# Altium integrated library TI.IntLib: 51 symbols
Pins are listed as number, name and electrical type; pins without a type are passive.

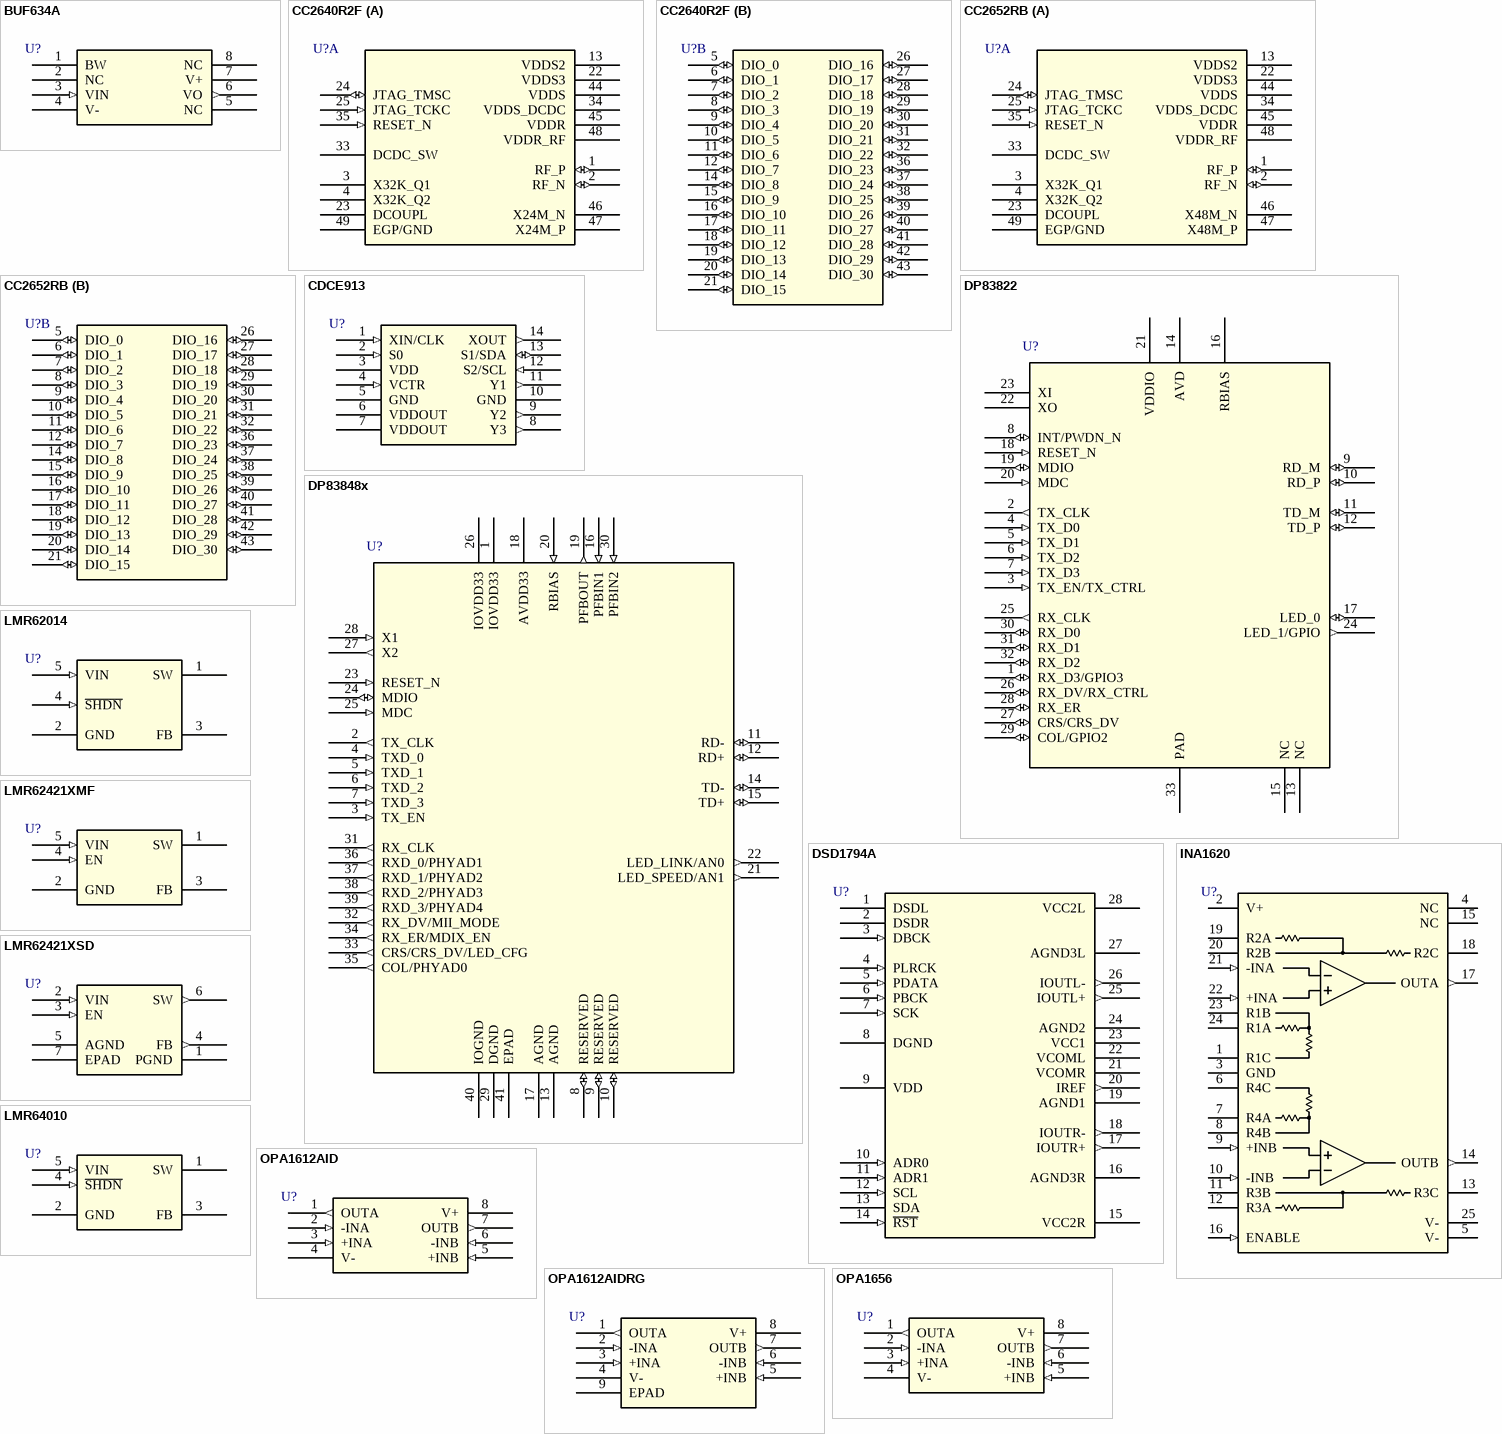
[diagram p0: symbols BUF634A to OPA1656]

## BUF634A
designator U?
BUF634A 36-V, 210-MHz, 250-mA Output, High-Speed Buffer; Manufacturer: Texas Instruments; Manufacturer_Part_Number: BUF634AIDR; Built_By: EMA_UL_Team; Copyright: Copyright (C) 2018 Accelerated Designs. All rights reserved; RefDes: RefDes; Type: DEV; Value: Value
footprint D8
pins: 1 BW, 2 NC, 3 VIN (in), 4 V- (power), 5 NC, 6 VO (out), 7 V+ (power), 8 NC

## CC2640R2F
designator U?
SimpleLink™ Bluetooth® 5.1 Low Energy Wireless MCU; Manufacturer: Texas Instruments; Manufacturer_Part_Number: CC2640R2FRGZR; Built_By: Texas_Instrument_Team; Copyright: Copyright (C) 2018 Accelerated Designs. All rights reserved; RefDes: RefDes; Type: DEV; Value: Value
footprint RGZ48
part A pins: 1 RF_P (io), 2 RF_N (io), 3 X32K_Q1, 4 X32K_Q2, 13 VDDS2 (power), 22 VDDS3 (power), 23 DCOUPL, 24 JTAG_TMSC (io), 25 JTAG_TCKC (in), 33 DCDC_SW (power), 34 VDDS_DCDC (power), 35 RESET_N (in), 44 VDDS (power), 45 VDDR (power), 46 X24M_N, 47 X24M_P, 48 VDDR_RF (power), 49 EGP/GND
part B pins: 5 DIO_0 (io), 6 DIO_1 (io), 7 DIO_2 (io), 8 DIO_3 (io), 9 DIO_4 (io), 10 DIO_5 (io), 11 DIO_6 (io), 12 DIO_7 (io), 14 DIO_8 (io), 15 DIO_9 (io), 16 DIO_10 (io), 17 DIO_11 (io), 18 DIO_12 (io), 19 DIO_13 (io), 20 DIO_14 (io), 21 DIO_15 (io), 26 DIO_16 (io), 27 DIO_17 (io), 28 DIO_18 (io), 29 DIO_19 (io), 30 DIO_20 (io), 31 DIO_21 (io), 32 DIO_22 (io), 36 DIO_23 (io), 37 DIO_24 (io), 38 DIO_25 (io), 39 DIO_26 (io), 40 DIO_27 (io), 41 DIO_28 (io), 42 DIO_29 (io), 43 DIO_30 (io)

## CC2652RB
designator U?
CC2652RB SimpleLink™ Crystal-less BAW Multiprotocol 2.4 GHz Wireless MCU; Manufacturer: Texas Instruments; Manufacturer_Part_Number: CC2652RB1FRGZR; Built_By: EMA_UL_Team; Copyright: Copyright (C) 2018 Accelerated Designs. All rights reserved; RefDes: RefDes; Type: DEV; Value: Value
footprint RGZ48
part A pins: 1 RF_P (io), 2 RF_N (io), 3 X32K_Q1, 4 X32K_Q2, 13 VDDS2 (power), 22 VDDS3 (power), 23 DCOUPL, 24 JTAG_TMSC (io), 25 JTAG_TCKC (in), 33 DCDC_SW (power), 34 VDDS_DCDC (power), 35 RESET_N (in), 44 VDDS (power), 45 VDDR (power), 46 X48M_N, 47 X48M_P, 48 VDDR_RF (power), 49 EGP/GND
part B pins: 5 DIO_0 (io), 6 DIO_1 (io), 7 DIO_2 (io), 8 DIO_3 (io), 9 DIO_4 (io), 10 DIO_5 (io), 11 DIO_6 (io), 12 DIO_7 (io), 14 DIO_8 (io), 15 DIO_9 (io), 16 DIO_10 (io), 17 DIO_11 (io), 18 DIO_12 (io), 19 DIO_13 (io), 20 DIO_14 (io), 21 DIO_15 (io), 26 DIO_16 (io), 27 DIO_17 (io), 28 DIO_18 (io), 29 DIO_19 (io), 30 DIO_20 (io), 31 DIO_21 (io), 32 DIO_22 (io), 36 DIO_23 (io), 37 DIO_24 (io), 38 DIO_25 (io), 39 DIO_26 (io), 40 DIO_27 (io), 41 DIO_28 (io), 42 DIO_29 (io), 43 DIO_30 (io)

## CDCE913
designator U?
CDCE(L)913: Flexible Low Power LVCMOS Clock Generator With SSC Support for EMI Reduction; Manufacturer: Texas Instruments; Manufacturer_Part_Number: CDCE913PWR; Built_By: EMA_UL_Team; Copyright: Copyright (C) 2018 Accelerated Designs. All rights reserved; RefDes: RefDes; Type: DEV; Value: Value
footprint PW14
pins: 1 XIN/CLK (in), 2 S0 (in), 3 VDD (power), 4 VCTR (in), 5 GND (power), 6 VDDOUT (power), 7 VDDOUT (power), 8 Y3 (out), 9 Y2 (out), 10 GND (power), 11 Y1 (out), 12 S2/SCL (in), 13 S1/SDA (io), 14 XOUT (out)

## DP83822
designator U?
DP83822 Robust, low power 10/100 Mbps ethernet physical layer transceiver; Manufacturer: Texas Instruments; Manufacturer_Part_Number: DP83822IRHBR; Built_By: EMA_Jessica; Copyright: Copyright (C) 2018 Accelerated Designs. All rights reserved; RefDes: RefDes; Type: DEV; Value: Value
footprint RHB32
pins: 1 RX_D3/GPIO3 (io), 2 TX_CLK (out), 3 TX_EN/TX_CTRL (in), 4 TX_D0 (in), 5 TX_D1 (in), 6 TX_D2 (in), 7 TX_D3 (in), 8 INT/PWDN_N (io), 9 RD_M (io), 10 RD_P (io), 11 TD_M (io), 12 TD_P (io), 13 NC, 14 AVD (power), 15 NC, 16 RBIAS, 17 LED_0 (io), 18 RESET_N (in), 19 MDIO (io), 20 MDC (in), 21 VDDIO (power), 22 XO, 23 XI, 24 LED_1/GPIO (out), 25 RX_CLK (out), 26 RX_DV/RX_CTRL (io), 27 CRS/CRS_DV (io), 28 RX_ER (io), 29 COL/GPIO2 (io), 30 RX_D0 (io), 31 RX_D1 (io), 32 RX_D2 (io), 33 PAD (power)

## DP83848x
designator U?
DP83848x PHYTER Mini / LS Single Port 10/100 MB/s Ethernet Transceiver; Manufacturer: Texas Instruments; Manufacturer_Part_Number: DP83848KSQ/NOPB; Built_By: EMA_UL_Team; Copyright: Copyright (C) 2018 Accelerated Designs. All rights reserved; RefDes: RefDes; Type: DEV; Value: Value
footprint RTA40
pins: 1 IOVDD33 (power), 2 TX_CLK (out), 3 TX_EN (in), 4 TXD_0 (in), 5 TXD_1 (in), 6 TXD_2 (in), 7 TXD_3 (in), 8 RESERVED (io), 9 RESERVED (io), 10 RESERVED (io), 11 RD- (io), 12 RD+ (io), 13 AGND (power), 14 TD- (io), 15 TD+ (io), 16 PFBIN1 (in), 17 AGND (power), 18 AVDD33 (power), 19 PFBOUT (out), 20 RBIAS (in), 21 LED_SPEED/AN1 (out), 22 LED_LINK/AN0 (out), 23 RESET_N (in), 24 MDIO (io), 25 MDC (in), 26 IOVDD33 (power), 27 X2 (out), 28 X1 (in), 29 DGND (power), 30 PFBIN2 (in), 31 RX_CLK (out), 32 RX_DV/MII_MODE (out), 33 CRS/CRS_DV/LED_CFG (out), 34 RX_ER/MDIX_EN (out), 35 COL/PHYAD0 (out), 36 RXD_0/PHYAD1 (out), 37 RXD_1/PHYAD2 (out), 38 RXD_2/PHYAD3 (out), 39 RXD_3/PHYAD4 (out), 40 IOGND (power), 41 EPAD

## DSD1794A
designator U?
24-Bit, 192-kHz Sampling, Advanced Segment, Audio Stereo Digital-to-analog Converter; Manufacturer: Texas Instruments; Manufacturer_Part_Number: DSD1794ADBR; Built_By: EMA_UL_Team; Copyright: Copyright (C) 2018 Accelerated Designs. All rights reserved; RefDes: RefDes; Type: DEV; Value: Value
footprint DB28
pins: 1 DSDL, 2 DSDR, 3 DBCK (in), 4 PLRCK (in), 5 PDATA (in), 6 PBCK (in), 7 SCK (in), 8 DGND (power), 9 VDD (power), 10 ADR0 (in), 11 ADR1 (in), 12 SCL (in), 13 SDA, 14 ~{RST} (in), 15 VCC2R (power), 16 AGND3R (power), 17 IOUTR+ (out), 18 IOUTR- (out), 19 AGND1 (power), 20 IREF (out), 21 VCOMR (power), 22 VCOML (power), 23 VCC1 (power), 24 AGND2 (power), 25 IOUTL+ (out), 26 IOUTL- (out), 27 AGND3L (power), 28 VCC2L (power)

## INA1620
designator U?
INA1620 High-Fidelity Audio Operational Amplifier With Integrated Thin-Film Resistors and EMI Filters; Manufacturer: Texas Instruments; Manufacturer_Part_Number: INA1620RTWR; Built_By: Texas_Instrument_Team; Copyright: Copyright (C) 2018 Accelerated Designs. All rights reserved; RefDes: RefDes; Type: DEV; Value: Value
footprint RTW24
pins: 1 R1C, 2 V+ (power), 3 GND (power), 4 NC, 5 V- (power), 6 R4C, 7 R4A, 8 R4B, 9 +INB (in), 10 -INB (in), 11 R3B, 12 R3A, 13 R3C, 14 OUTB (out), 15 NC, 16 ENABLE (in), 17 OUTA (out), 18 R2C, 19 R2A, 20 R2B, 21 -INA (in), 22 +INA (in), 23 R1B, 24 R1A, 25 V- (power)

## LMR62014
designator U?
LMR62014 SIMPLE SWITCHER® 20Vout, 1.4A Step-Up Voltage Regulator; Manufacturer: Texas Instruments; Manufacturer_Part_Number: LMR62014XMFX/NOPB; Built_By: EMA_UL_Team; Copyright: Copyright (C) 2018 Accelerated Designs. All rights reserved; RefDes: RefDes; Type: DEV; Value: Value
footprint DBV5
pins: 1 SW, 2 GND (power), 3 FB, 4 ~{SHDN} (in), 5 VIN (in)

## LMR62421XMF
designator U?
LMR62421 SIMPLE SWITCHER® 24Vout, 2.1A Step-Up Voltage Regulator in SOT-23; Manufacturer: Texas Instruments; Manufacturer_Part_Number: LMR62421XMF/NOPB; Built_By: EMA_UL_Team; Copyright: Copyright (C) 2018 Accelerated Designs. All rights reserved; RefDes: RefDes; Type: DEV; Value: Value
footprint DBV5
pins: 1 SW, 2 GND (power), 3 FB, 4 EN (in), 5 VIN (in)

## LMR62421XSD
designator U?
LMR62421 SIMPLE SWITCHER® 24Vout, 2.1A Step-Up Voltage Regulator in SOT-23; Manufacturer: Texas Instruments; Manufacturer_Part_Number: LMR62421XSD/NOPB; Built_By: EMA_UL_Team; Copyright: Copyright (C) 2018 Accelerated Designs. All rights reserved; RefDes: RefDes; Type: DEV; Value: Value
footprint NGG6
pins: 1 PGND (power), 2 VIN (in), 3 EN (in), 4 FB (out), 5 AGND (power), 6 SW (out), 7 EPAD

## LMR64010
designator U?
LMR64010 SIMPLE SWITCHER® 40Vout, 1A Step-Up Voltage Regulator in SOT-23; Manufacturer: Texas Instruments; Manufacturer_Part_Number: LMR64010XMFX/NOPB; Built_By: EMA_UL_Team; Copyright: Copyright (C) 2018 Accelerated Designs. All rights reserved; RefDes: RefDes; Type: DEV; Value: Value
footprint DBV5
pins: 1 SW, 2 GND (power), 3 FB, 4 ~{SHDN} (in), 5 VIN (in)

## OPA1612AID
designator U?
OPA161x SoundPlus™ High-Performance, Bipolar-Input Audio Operational Amplifiers; Manufacturer: Texas Instruments; Manufacturer_Part_Number: OPA1612AIDR; Built_By: EMA_UL_Team; Copyright: Copyright (C) 2018 Accelerated Designs. All rights reserved; RefDes: RefDes; Type: DEV; Value: Value
footprint D8
pins: 1 OUTA (out), 2 -INA (in), 3 +INA (in), 4 V- (power), 5 +INB (in), 6 -INB (in), 7 OUTB (out), 8 V+ (power)

## OPA1612AIDRG
designator U?
OPA161x SoundPlus™ High-Performance, Bipolar-Input Audio Operational Amplifiers; Manufacturer: Texas Instruments; Manufacturer_Part_Number: OPA1612AIDRGR; Built_By: EMA_UL_Team; Copyright: Copyright (C) 2018 Accelerated Designs. All rights reserved; RefDes: RefDes; Type: DEV; Value: Value
footprint DRG8
pins: 1 OUTA (out), 2 -INA (in), 3 +INA (in), 4 V- (power), 5 +INB (in), 6 -INB (in), 7 OUTB (out), 8 V+ (power), 9 EPAD

## OPA1656
designator U?
OPA1656 Ultra-Low-Noise, Low-Distortion, FET-Input, Burr-Brown™ Audio Operational Amplifier; Manufacturer: Texas Instruments; Manufacturer_Part_Number: OPA1656IDR; Built_By: EMA_UL_Team; Copyright: Copyright (C) 2018 Accelerated Designs. All rights reserved; RefDes: RefDes; Type: DEV; Value: Value
footprint D8
pins: 1 OUTA (out), 2 -INA (in), 3 +INA (in), 4 V- (power), 5 +INB (in), 6 -INB (in), 7 OUTB (out), 8 V+ (power)

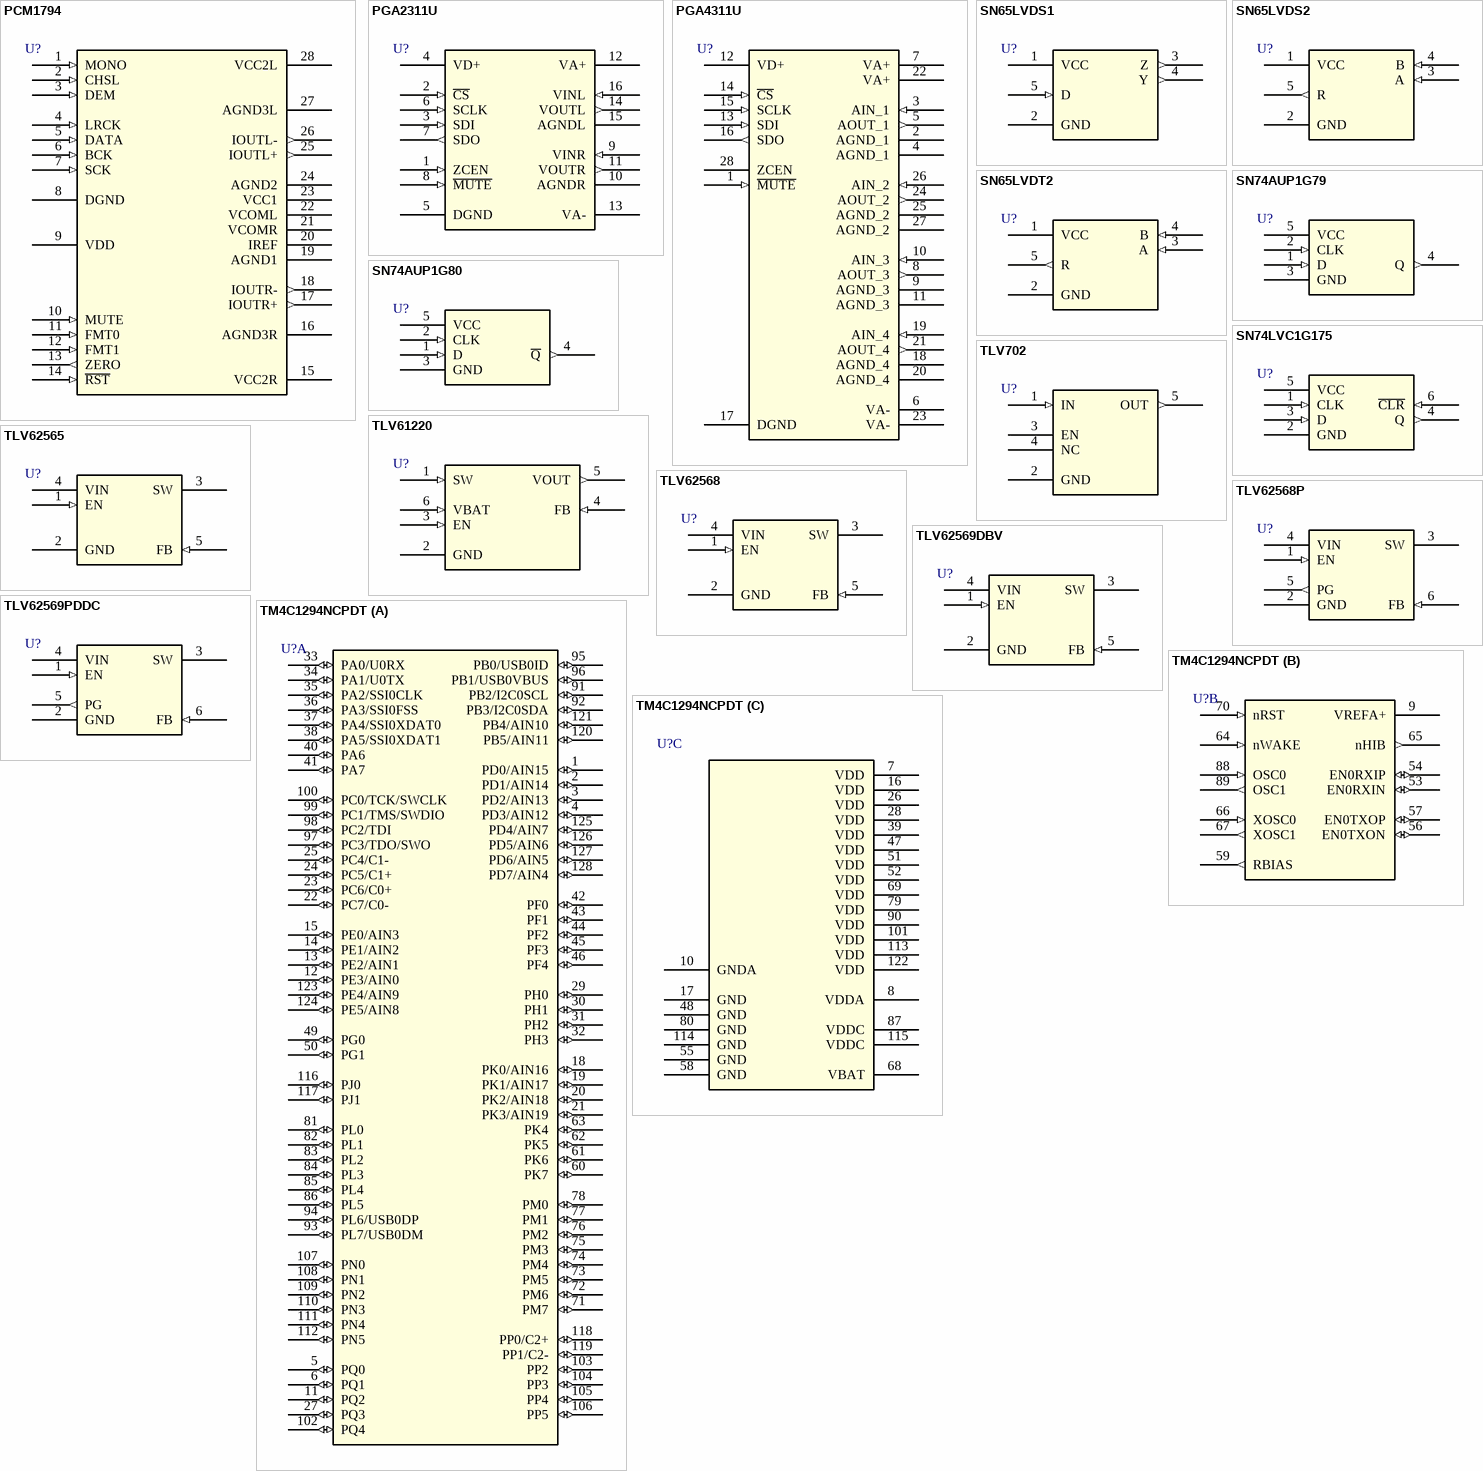
[diagram p1: symbols PCM1794 to TM4C1294NCPDT]

## PCM1794
designator U?
24-Bit, 192-kHz Sampling, Advanced Segment, Audio Stereo Digital-to-analog Converter; Manufacturer: Texas Instruments; Manufacturer_Part_Number: PCM1794ADBR; Built_By: EMA_UL_Team; Copyright: Copyright (C) 2018 Accelerated Designs. All rights reserved; RefDes: RefDes; Type: DEV; Value: Value
footprint DB28
pins: 1 MONO (in), 2 CHSL (in), 3 DEM (in), 4 LRCK (in), 5 DATA (in), 6 BCK (in), 7 SCK (in), 8 DGND (power), 9 VDD (power), 10 MUTE (in), 11 FMT0 (in), 12 FMT1 (in), 13 ZERO (out), 14 ~{RST} (in), 15 VCC2R (power), 16 AGND3R (power), 17 IOUTR+ (out), 18 IOUTR- (out), 19 AGND1 (power), 20 IREF (power), 21 VCOMR (power), 22 VCOML (power), 23 VCC1 (power), 24 AGND2 (power), 25 IOUTL+ (out), 26 IOUTL- (out), 27 AGND3L (power), 28 VCC2L (power)

## PGA2311U
designator U?
Stereo Audio Volume Control; Manufacturer: Texas Instruments; Manufacturer_Part_Number: PGA2311UA; Built_By: EMA_UL_Team; Copyright: Copyright (C) 2018 Accelerated Designs. All rights reserved; RefDes: RefDes; Type: DEV; Value: Value
footprint DW16
pins: 1 ZCEN (in), 2 ~{CS} (in), 3 SDI (in), 4 VD+ (power), 5 DGND (power), 6 SCLK (in), 7 SDO (out), 8 ~{MUTE} (in), 9 VINR (in), 10 AGNDR (power), 11 VOUTR (out), 12 VA+ (power), 13 VA- (power), 14 VOUTL (out), 15 AGNDL (power), 16 VINL (in)

## PGA4311U
designator U?
4-Channel Audio Volume Control; Manufacturer: Texas Instruments; Manufacturer_Part_Number: PGA4311U/1K; Built_By: EMA_UL_Team; Copyright: Copyright (C) 2018 Accelerated Designs. All rights reserved; RefDes: RefDes; Type: DEV; Value: Value
footprint DW28
pins: 1 ~{MUTE} (in), 2 AGND_1 (power), 3 AIN_1 (in), 4 AGND_1 (power), 5 AOUT_1 (out), 6 VA- (power), 7 VA+ (power), 8 AOUT_3 (out), 9 AGND_3 (power), 10 AIN_3 (in), 11 AGND_3 (power), 12 VD+ (power), 13 SDI (in), 14 ~{CS} (in), 15 SCLK (in), 16 SDO (out), 17 DGND (power), 18 AGND_4 (power), 19 AIN_4 (in), 20 AGND_4 (power), 21 AOUT_4 (out), 22 VA+ (power), 23 VA- (power), 24 AOUT_2 (out), 25 AGND_2 (power), 26 AIN_2 (in), 27 AGND_2 (power), 28 ZCEN

## SN65LVDS1
designator U?
SN65LVDS1 High-Speed Differential Line Driver; Manufacturer: Texas Instruments; Manufacturer_Part_Number: SN65LVDS1DBVR; Built_By: EMA_UL_Team; Copyright: Copyright (C) 2018 Accelerated Designs. All rights reserved; RefDes: RefDes; Type: DEV; Value: Value
footprint DBV5
pins: 1 VCC (power), 2 GND (power), 3 Z (out), 4 Y (out), 5 D (in)

## SN65LVDS2
designator U?
SN65LVDS2 High-Speed Differential Line Receiver; Manufacturer: Texas Instruments; Manufacturer_Part_Number: SN65LVDS2DBVR; Built_By: EMA_UL_Team; Copyright: Copyright (C) 2018 Accelerated Designs. All rights reserved; RefDes: RefDes; Type: DEV; Value: Value
footprint DBV5
pins: 1 VCC (power), 2 GND (power), 3 A (in), 4 B (in), 5 R (out)

## SN65LVDT2
designator U?
SN65LVDT2 High-Speed Differential Line Receiver; Manufacturer: Texas Instruments; Manufacturer_Part_Number: SN65LVDT2DBVR; Built_By: EMA_UL_Team; Copyright: Copyright (C) 2018 Accelerated Designs. All rights reserved; RefDes: RefDes; Type: DEV; Value: Value
footprint DBV5
pins: 1 VCC (power), 2 GND (power), 3 A (in), 4 B (in), 5 R (out)

## SN74AUP1G79
designator U?
SN74AUP1G79 Low-Power Single Positive-Edge-Triggered D-Type Flip-Flop; Manufacturer: Texas Instruments; Manufacturer_Part_Number: SN74AUP1G79DCKR; Built_By: EMA_UL_Team; Copyright: Copyright (C) 2018 Accelerated Designs. All rights reserved; RefDes: RefDes; Type: DEV; Value: Value
footprint DCK5
pins: 1 D (in), 2 CLK (in), 3 GND (power), 4 Q (out), 5 VCC (power)

## SN74AUP1G80
designator U?
SN74AUP1G80 Low-Power Single Positive-Edge-Triggered D-Type Flip-Flop; Manufacturer: Texas Instruments; Manufacturer_Part_Number: SN74AUP1G80DCKR; Built_By: EMA_UL_Team; Copyright: Copyright (C) 2018 Accelerated Designs. All rights reserved; RefDes: RefDes; Type: DEV; Value: Value
footprint DCK5
pins: 1 D (in), 2 CLK (in), 3 GND (power), 4 ~{Q} (out), 5 VCC (power)

## SN74LVC1G175
designator U?
SN74LVC1G175 Single D-Type Flip-Flop With Asynchronous Clear; Manufacturer: Texas Instruments; Manufacturer_Part_Number: SN74LVC1G175DBVR; Built_By: EMA_UL_Team; Copyright: Copyright (C) 2018 Accelerated Designs. All rights reserved; RefDes: RefDes; Type: DEV; Value: Value
footprint DBV6
pins: 1 CLK (in), 2 GND, 3 D (in), 4 Q (out), 5 VCC (power), 6 ~{CLR} (in)

## TLV702
designator U?
TLV702 300-mA, Low-IQ, Low-Dropout Regulator; Manufacturer: Texas Instruments; Manufacturer_Part_Number: TLV70212DBVR; Built_By: Gordon Mak; Copyright: Copyright (C) 2020 MWLabs. All rights reserved; RefDes: RefDes; Type: DEV; Value: Value
footprint DBV5
pins: 1 IN (in), 2 GND (power), 3 EN, 4 NC, 5 OUT (out)

## TLV61220
designator U?
TLV61220 Low-Input Voltage Step-Up Converter; Manufacturer: Texas Instruments; Manufacturer_Part_Number: TLV61220DBVR; Built_By: EMA_UL_Team; Copyright: Copyright (C) 2018 Accelerated Designs. All rights reserved; RefDes: RefDes; Type: DEV; Value: Value
footprint DBV6
pins: 1 SW (in), 2 GND (power), 3 EN (in), 4 FB (in), 5 VOUT (out), 6 VBAT (in)

## TLV62565
designator U?
TLV6256x 1.5-A High Efficiency Step-Down Converters; Manufacturer: Texas Instruments; Manufacturer_Part_Number: TLV62565DBVR; Built_By: Gordon Mak; Copyright: Copyright (C) 2020 MWLabs. All rights reserved; RefDes: RefDes; Type: DEV; Value: Value
footprint DBV5
pins: 1 EN (in), 2 GND (power), 3 SW, 4 VIN (power), 5 FB (in)

## TLV62568
designator U?
TLV62568 1-A High Efficiency Synchronous Buck Converter; Manufacturer: Texas Instruments; Manufacturer_Part_Number: TLV62568DBVR; Built_By: Gordon Mak; Copyright: Copyright (C) 2020 MWLabs. All rights reserved; RefDes: RefDes; Type: DEV; Value: Value
footprint DBV5
pins: 1 EN (in), 2 GND (power), 3 SW (power), 4 VIN (power), 5 FB (in)

## TLV62568P
designator U?
TLV62568 1-A High Efficiency Synchronous Buck Converter; Manufacturer: Texas Instruments; Manufacturer_Part_Number: TLV62568PDDCR; Built_By: Gordon Mak; Copyright: Copyright (C) 2020 MWLabs. All rights reserved; RefDes: RefDes; Type: DEV; Value: Value
footprint DDC6
pins: 1 EN (in), 2 GND (power), 3 SW (power), 4 VIN (power), 5 PG (out), 6 FB (in)

## TLV62569DBV
designator U?
TLV62569 2-A High Efficiency Synchronous Buck Converter; Manufacturer: Texas Instruments; Manufacturer_Part_Number: TLV62569DBVR; Built_By: Gordon Mak; Copyright: Copyright (C) 2020 MWLabs. All rights reserved; RefDes: RefDes; Type: DEV; Value: Value
footprint DBV5
pins: 1 EN (in), 2 GND (power), 3 SW (power), 4 VIN (power), 5 FB (in)

## TLV62569PDDC
designator U?
TLV62569 2-A High Efficiency Synchronous Buck Converter; Manufacturer: Texas Instruments; Manufacturer_Part_Number: TLV62569PDDCR; Built_By: Gordon Mak; Copyright: Copyright (C) 2020 MWLabs. All rights reserved; RefDes: RefDes; Type: DEV; Value: Value
footprint DDC6
pins: 1 EN (in), 2 GND (power), 3 SW (power), 4 VIN (power), 5 PG (out), 6 FB (in)

## TM4C1294NCPDT
designator U?
Tiva™ TM4C1294NCPDT Microcontroller; Manufacturer: Texas Instruments; Manufacturer_Part_Number: TM4C1294NCPDTT3R; Built_By: EMA_UL_Team; Copyright: Copyright (C) 2018 Accelerated Designs. All rights reserved; RefDes: RefDes; Type: DEV; Value: Value
footprint PDT128
part A pins: 1 PD0/AIN15 (io), 2 PD1/AIN14 (io), 3 PD2/AIN13 (io), 4 PD3/AIN12 (io), 5 PQ0 (io), 6 PQ1 (io), 11 PQ2 (io), 12 PE3/AIN0 (io), 13 PE2/AIN1 (io), 14 PE1/AIN2 (io), 15 PE0/AIN3 (io), 18 PK0/AIN16 (io), 19 PK1/AIN17 (io), 20 PK2/AIN18 (io), 21 PK3/AIN19 (io), 22 PC7/C0- (io), 23 PC6/C0+ (io), 24 PC5/C1+ (io), 25 PC4/C1- (io), 27 PQ3 (io), 29 PH0 (io), 30 PH1 (io), 31 PH2 (io), 32 PH3 (io), 33 PA0/U0RX (io), 34 PA1/U0TX (io), 35 PA2/SSI0CLK (io), 36 PA3/SSI0FSS (io), 37 PA4/SSI0XDAT0 (io), 38 PA5/SSI0XDAT1 (io), 40 PA6 (io), 41 PA7 (io), 42 PF0 (io), 43 PF1 (io), 44 PF2 (io), 45 PF3 (io), 46 PF4 (io), 49 PG0 (io), 50 PG1 (io), 60 PK7 (io), 61 PK6 (io), 62 PK5 (io), 63 PK4 (io), 71 PM7 (io), 72 PM6 (io), 73 PM5 (io), 74 PM4 (io), 75 PM3 (io), 76 PM2 (io), 77 PM1 (io), 78 PM0 (io), 81 PL0 (io), 82 PL1 (io), 83 PL2 (io), 84 PL3 (io), 85 PL4 (io), 86 PL5 (io), 91 PB2/I2C0SCL (io), 92 PB3/I2C0SDA (io), 93 PL7/USB0DM (io), 94 PL6/USB0DP (io), 95 PB0/USB0ID (io), 96 PB1/USB0VBUS (io), 97 PC3/TDO/SWO (io), 98 PC2/TDI (io), 99 PC1/TMS/SWDIO (io), 100 PC0/TCK/SWCLK (io), 102 PQ4 (io), 103 PP2 (io), 104 PP3 (io), 105 PP4 (io), 106 PP5 (io), 107 PN0 (io), 108 PN1 (io), 109 PN2 (io), 110 PN3 (io), 111 PN4 (io), 112 PN5 (io), 116 PJ0 (io), 117 PJ1 (io), 118 PP0/C2+ (io), 119 PP1/C2- (io), 120 PB5/AIN11 (io), 121 PB4/AIN10 (io), 123 PE4/AIN9 (io), 124 PE5/AIN8 (io), 125 PD4/AIN7 (io), 126 PD5/AIN6 (io), 127 PD6/AIN5 (io), 128 PD7/AIN4 (io)
part B pins: 9 VREFA+ (power), 53 EN0RXIN (io), 54 EN0RXIP (io), 56 EN0TXON (io), 57 EN0TXOP (io), 59 RBIAS (out), 64 nWAKE (in), 65 nHIB (out), 66 XOSC0 (in), 67 XOSC1 (out), 70 nRST (in), 88 OSC0 (in), 89 OSC1 (out)
part C pins: 7 VDD (power), 8 VDDA (power), 10 GNDA (power), 16 VDD (power), 17 GND (power), 26 VDD (power), 28 VDD (power), 39 VDD (power), 47 VDD (power), 48 GND (power), 51 VDD (power), 52 VDD (power), 55 GND (power), 58 GND (power), 68 VBAT (power), 69 VDD (power), 79 VDD (power), 80 GND (power), 87 VDDC (power), 90 VDD (power), 101 VDD (power), 113 VDD (power), 114 GND (power), 115 VDDC (power), 122 VDD (power)

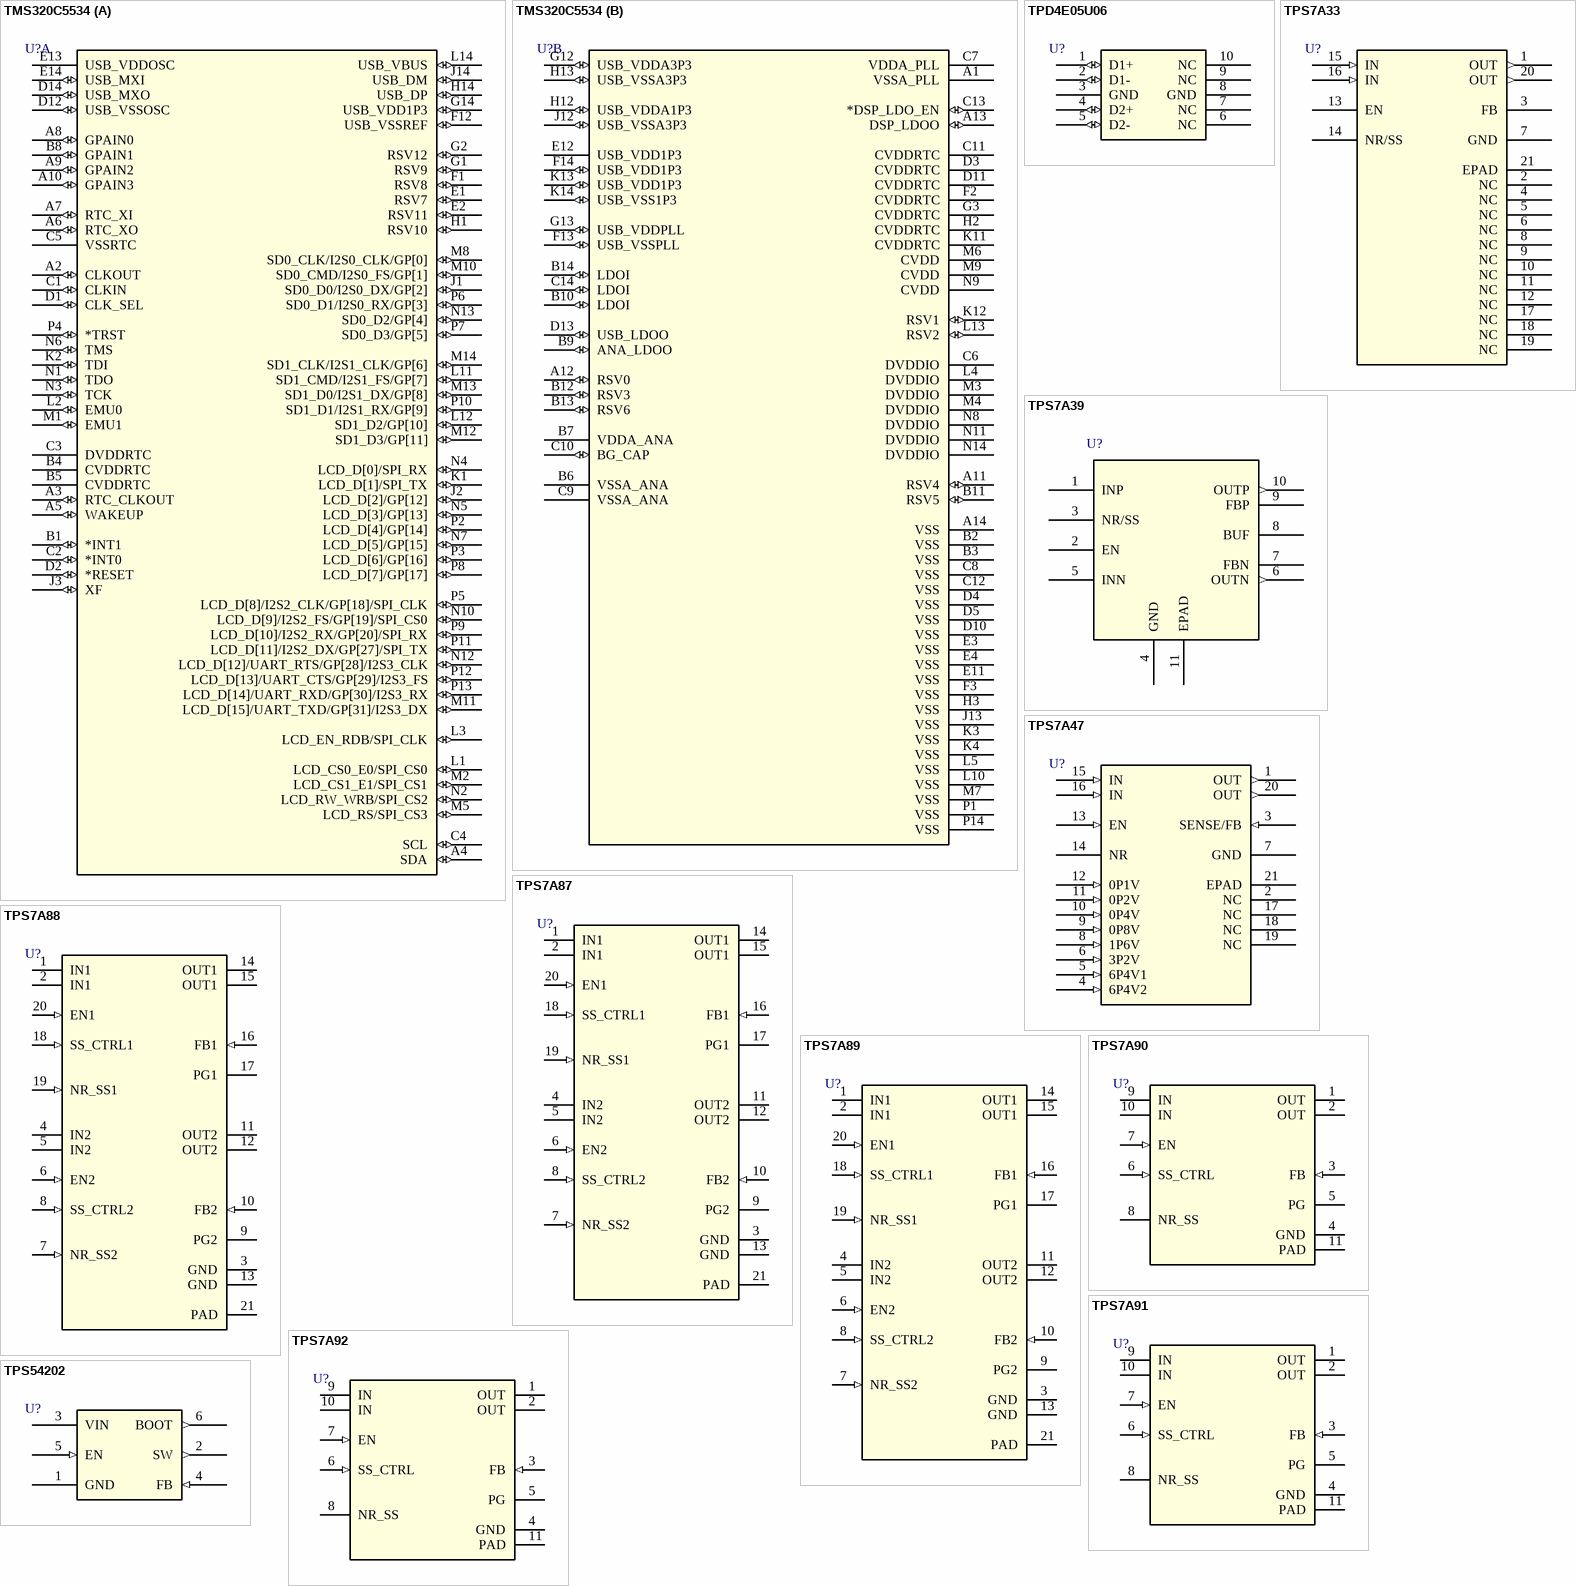
[diagram p2: symbols TMS320C5534 to TPS54202]

## TMS320C5534
designator U?
Fixed-Point Digital Signal Processor; Manufacturer: Texas Instruments; Manufacturer_Part_Number: TMS320C5534AZHH10; Built_By: EMA_UL_Team; Copyright: Copyright (C) 2018 Accelerated Designs. All rights reserved; RefDes: RefDes; Type: DEV; Value: Value
footprint ZHH144
part A pins: A2 CLKOUT (io), A3 RTC_CLKOUT (io), A4 SDA (io), A5 WAKEUP (io), A6 RTC_XO (io), A7 RTC_XI (io), A8 GPAIN0 (io), A9 GPAIN2 (io), A10 GPAIN3 (io), B1 *INT1 (io), B4 CVDDRTC (power), B5 CVDDRTC (power), B8 GPAIN1 (io), C1 CLKIN (io), C2 *INT0 (io), C3 DVDDRTC (power), C4 SCL (io), C5 VSSRTC (power), D1 CLK_SEL (io), D2 *RESET (io), D12 USB_VSSOSC (io), D14 USB_MXO (io), E1 RSV7 (io), E2 RSV11 (io), E13 USB_VDDOSC (power), E14 USB_MXI (io), F1 RSV8 (io), F12 USB_VSSREF (io), G1 RSV9 (io), G2 RSV12 (io), G14 USB_VDD1P3 (io), H1 RSV10 (io), H14 USB_DP (io), J1 SD0_D0/I2S0_DX/GP[2] (io), J2 LCD_D[2]/GP[12] (io), J3 XF (io), J14 USB_DM (io), K1 LCD_D[1]/SPI_TX (io), K2 TDI (io), L1 LCD_CS0_E0/SPI_CS0 (io), L2 EMU0 (io), L3 LCD_EN_RDB/SPI_CLK (io), L11 SD1_CMD/I2S1_FS/GP[7] (io), L12 SD1_D2/GP[10] (io), L14 USB_VBUS (io), M1 EMU1 (io), M2 LCD_CS1_E1/SPI_CS1 (io), M5 LCD_RS/SPI_CS3 (io), M8 SD0_CLK/I2S0_CLK/GP[0] (io), M10 SD0_CMD/I2S0_FS/GP[1] (io), M11 LCD_D[15]/UART_TXD/GP[31]/I2S3_DX (io), M12 SD1_D3/GP[11] (io), M13 SD1_D0/I2S1_DX/GP[8] (io), M14 SD1_CLK/I2S1_CLK/GP[6] (io), N1 TDO (io), N2 LCD_RW_WRB/SPI_CS2 (io), N3 TCK (io), N4 LCD_D[0]/SPI_RX (io), N5 LCD_D[3]/GP[13] (io), N6 TMS (io), N7 LCD_D[5]/GP[15] (io), N10 LCD_D[9]/I2S2_FS/GP[19]/SPI_CS0 (io), N12 LCD_D[12]/UART_RTS/GP[28]/I2S3_CLK (io), N13 SD0_D2/GP[4] (io), P2 LCD_D[4]/GP[14] (io), P3 LCD_D[6]/GP[16] (io), P4 *TRST (io), P5 LCD_D[8]/I2S2_CLK/GP[18]/SPI_CLK (io), P6 SD0_D1/I2S0_RX/GP[3] (io), P7 SD0_D3/GP[5] (io), P8 LCD_D[7]/GP[17] (io), P9 LCD_D[10]/I2S2_RX/GP[20]/SPI_RX (io), P10 SD1_D1/I2S1_RX/GP[9] (io), P11 LCD_D[11]/I2S2_DX/GP[27]/SPI_TX (io), P12 LCD_D[13]/UART_CTS/GP[29]/I2S3_FS (io), P13 LCD_D[14]/UART_RXD/GP[30]/I2S3_RX (io)
part B pins: A1 VSSA_PLL (power), A11 RSV4 (io), A12 RSV0 (io), A13 DSP_LDOO (io), A14 VSS (power), B2 VSS (power), B3 VSS (power), B6 VSSA_ANA (power), B7 VDDA_ANA (power), B9 ANA_LDOO (io), B10 LDOI (io), B11 RSV5 (io), B12 RSV3 (io), B13 RSV6 (io), B14 LDOI (io), C6 DVDDIO (power), C7 VDDA_PLL (power), C8 VSS (power), C9 VSSA_ANA (power), C10 BG_CAP (io), C11 CVDDRTC (power), C12 VSS (power), C13 *DSP_LDO_EN (io), C14 LDOI (io), D3 CVDDRTC (power), D4 VSS (power), D5 VSS (power), D10 VSS (power), D11 CVDDRTC (power), D13 USB_LDOO (io), E3 VSS (power), E4 VSS (power), E11 VSS (power), E12 USB_VDD1P3 (power), F2 CVDDRTC (power), F3 VSS (power), F13 USB_VSSPLL (io), F14 USB_VDD1P3 (io), G3 CVDDRTC (power), G12 USB_VDDA3P3 (io), G13 USB_VDDPLL (io), H2 CVDDRTC (power), H3 VSS (power), H12 USB_VDDA1P3 (io), H13 USB_VSSA3P3 (io), J12 USB_VSSA3P3 (io), J13 VSS (power), K3 VSS (power), K4 VSS (power), K11 CVDDRTC (power), K12 RSV1 (io), K13 USB_VDD1P3 (io), K14 USB_VSS1P3 (io), L4 DVDDIO (power), L5 VSS (power), L10 VSS (power), L13 RSV2 (io), M3 DVDDIO (power), M4 DVDDIO (power), M6 CVDD (power), M7 VSS (power), M9 CVDD (power), N8 DVDDIO (power), N9 CVDD (power), N11 DVDDIO (power), N14 DVDDIO (power), P1 VSS (power), P14 VSS (power)

## TPD4E05U06
designator U?
TPDxE05U06 4 Channel ESD Protection Device for Super-Speed (Up to 6 Gbps) Interface; Manufacturer: Texas Instruments; Manufacturer_Part_Number: TPD4E05U06DQAR; Built_By: EMA_UL_Team; Copyright: Copyright (C) 2018 Accelerated Designs. All rights reserved; RefDes: RefDes; Type: DEV; Value: Value
footprint DQA10
pins: 1 D1+ (io), 2 D1- (io), 3 GND (power), 4 D2+ (io), 5 D2- (io), 6 NC, 7 NC, 8 GND (power), 9 NC, 10 NC

## TPS7A33
designator U?
TPS7A33 –36-V, 1-A, Ultralow-Noise Negative Voltage Regulator; Manufacturer: Texas Instruments; Manufacturer_Part_Number: TPS7A3301RGWR; Built_By: EMA_UL_Team; Copyright: Copyright (C) 2018 Accelerated Designs. All rights reserved; RefDes: RefDes; Type: DEV; Value: Value
footprint RGW20
pins: 1 OUT (out), 2 NC, 3 FB, 4 NC, 5 NC, 6 NC, 7 GND (power), 8 NC, 9 NC, 10 NC, 11 NC, 12 NC, 13 EN, 14 NR/SS, 15 IN (in), 16 IN (in), 17 NC, 18 NC, 19 NC, 20 OUT (out), 21 EPAD

## TPS7A39
designator U?
TPS7A39 Dual, 150-mA, Wide VIN Positive and Negative LDO Voltage Regulator; Manufacturer: Texas Instruments; Manufacturer_Part_Number: TPS7A3901DSCR; Built_By: EMA_Molly; Copyright: Copyright (C) 2018 Accelerated Designs. All rights reserved; RefDes: RefDes; Type: DEV; Value: Value
footprint DSC10
pins: 1 INP, 2 EN, 3 NR/SS, 4 GND, 5 INN, 6 OUTN (out), 7 FBN, 8 BUF, 9 FBP, 10 OUTP (out), 11 EPAD

## TPS7A47
designator U?
TPS7A470x 36-V, 1-A, 4-µVRMS, RF LDO Voltage Regulator; Manufacturer: Texas Instruments; Manufacturer_Part_Number: TPS7A4701RGWR; Built_By: EMA_UL_Team; Copyright: Copyright (C) 2018 Accelerated Designs. All rights reserved; RefDes: RefDes; Type: DEV; Value: Value
footprint RGW20
pins: 1 OUT (out), 2 NC, 3 SENSE/FB (in), 4 6P4V2 (in), 5 6P4V1 (in), 6 3P2V (in), 7 GND (power), 8 1P6V (in), 9 0P8V (in), 10 0P4V (in), 11 0P2V (in), 12 0P1V (in), 13 EN (in), 14 NR, 15 IN (in), 16 IN (in), 17 NC, 18 NC, 19 NC, 20 OUT (out), 21 EPAD

## TPS7A87
designator U?
TPS7A87 Dual, 500-mA, Low-Noise (3.8 μVRMS), LDO Voltage Regulator; Manufacturer: Texas Instruments; Manufacturer_Part_Number: TPS7A8701RTJR; Built_By: Texas_Instrument_Team; Copyright: Copyright (C) 2018 Accelerated Designs. All rights reserved; RefDes: RefDes; Type: DEV; Value: Value
footprint RTJ20
pins: 1 IN1 (power), 2 IN1 (power), 3 GND (power), 4 IN2 (power), 5 IN2 (power), 6 EN2 (in), 7 NR_SS2 (in), 8 SS_CTRL2 (in), 9 PG2 (oc), 10 FB2 (in), 11 OUT2 (power), 12 OUT2 (power), 13 GND (power), 14 OUT1 (power), 15 OUT1 (power), 16 FB1 (in), 17 PG1 (oc), 18 SS_CTRL1 (in), 19 NR_SS1 (in), 20 EN1 (in), 21 PAD (power)

## TPS7A88
designator U?
TPS7A88 Dual, 1-A, Low-Noise (3.8-µVRMS), LDO Voltage Regulator; Manufacturer: Texas Instruments; Manufacturer_Part_Number: TPS7A8801RTJR; Built_By: Texas_Instrument_Team; Copyright: Copyright (C) 2018 Accelerated Designs. All rights reserved; RefDes: RefDes; Type: DEV; Value: Value
footprint RTJ20
pins: 1 IN1 (power), 2 IN1 (power), 3 GND (power), 4 IN2 (power), 5 IN2 (power), 6 EN2 (in), 7 NR_SS2 (in), 8 SS_CTRL2 (in), 9 PG2 (oc), 10 FB2 (in), 11 OUT2 (power), 12 OUT2 (power), 13 GND (power), 14 OUT1 (power), 15 OUT1 (power), 16 FB1 (in), 17 PG1 (oc), 18 SS_CTRL1 (in), 19 NR_SS1 (in), 20 EN1 (in), 21 PAD (power)

## TPS7A89
designator U?
TPS7A89 Small, Dual, 2-A, Low-Noise (3.8 μVRMS), LDO Voltage Regulator; Manufacturer: Texas Instruments; Manufacturer_Part_Number: TPS7A8901RTJR; Built_By: Texas_Instrument_Team; Copyright: Copyright (C) 2018 Accelerated Designs. All rights reserved; RefDes: RefDes; Type: DEV; Value: Value
footprint RTJ20
pins: 1 IN1 (power), 2 IN1 (power), 3 GND (power), 4 IN2 (power), 5 IN2 (power), 6 EN2 (in), 7 NR_SS2 (in), 8 SS_CTRL2 (in), 9 PG2 (oc), 10 FB2 (in), 11 OUT2 (power), 12 OUT2 (power), 13 GND (power), 14 OUT1 (power), 15 OUT1 (power), 16 FB1 (in), 17 PG1 (oc), 18 SS_CTRL1 (in), 19 NR_SS1 (in), 20 EN1 (in), 21 PAD (power)

## TPS7A90
designator U?
TPS7A90 500-mA, High-Accuracy, Low-Noise LDO Voltage Regulator; Manufacturer: Texas Instruments; Manufacturer_Part_Number: TPS7A9001DSKR; Built_By: Texas_Instrument_Team; Copyright: Copyright (C) 2018 Accelerated Designs. All rights reserved; RefDes: RefDes; Type: DEV; Value: Value
footprint DSK10
pins: 1 OUT (power), 2 OUT (power), 3 FB (in), 4 GND (power), 5 PG (oc), 6 SS_CTRL (in), 7 EN (in), 8 NR_SS, 9 IN (power), 10 IN (power), 11 PAD (power)

## TPS7A91
designator U?
TPS7A91 1-A, High-Accuracy, Low-Noise LDO Voltage Regulator; Manufacturer: Texas Instruments; Manufacturer_Part_Number: TPS7A9101DSKR; Built_By: Texas_Instrument_Team; Copyright: Copyright (C) 2018 Accelerated Designs. All rights reserved; RefDes: RefDes; Type: DEV; Value: Value
footprint DSK10
pins: 1 OUT (power), 2 OUT (power), 3 FB (in), 4 GND (power), 5 PG (oc), 6 SS_CTRL (in), 7 EN (in), 8 NR_SS, 9 IN (power), 10 IN (power), 11 PAD (power)

## TPS7A92
designator U?
TPS7A92 2-A, High-Accuracy, Low-Noise LDO Voltage Regulator; Manufacturer: Texas Instruments; Manufacturer_Part_Number: TPS7A9201DSKR; Built_By: Texas_Instrument_Team; Copyright: Copyright (C) 2018 Accelerated Designs. All rights reserved; RefDes: RefDes; Type: DEV; Value: Value
footprint DSK10
pins: 1 OUT (power), 2 OUT (power), 3 FB (in), 4 GND (power), 5 PG (oc), 6 SS_CTRL (in), 7 EN (in), 8 NR_SS, 9 IN (power), 10 IN (power), 11 PAD (power)

## TPS54202
designator U?
TPS54202 4.5-V to 28-V Input, 2-A Output, EMI Friendly Synchronous Step Down Converter; Manufacturer: Texas Instruments; Manufacturer_Part_Number: TPS54202DDCR; Built_By: Gordon Mak; Copyright: Copyright (C) 2020 MWLabs. All rights reserved; RefDes: RefDes; Type: DEV; Value: Value
footprint DDC6
pins: 1 GND (power), 2 SW (out), 3 VIN (power), 4 FB (in), 5 EN (in), 6 BOOT (out)

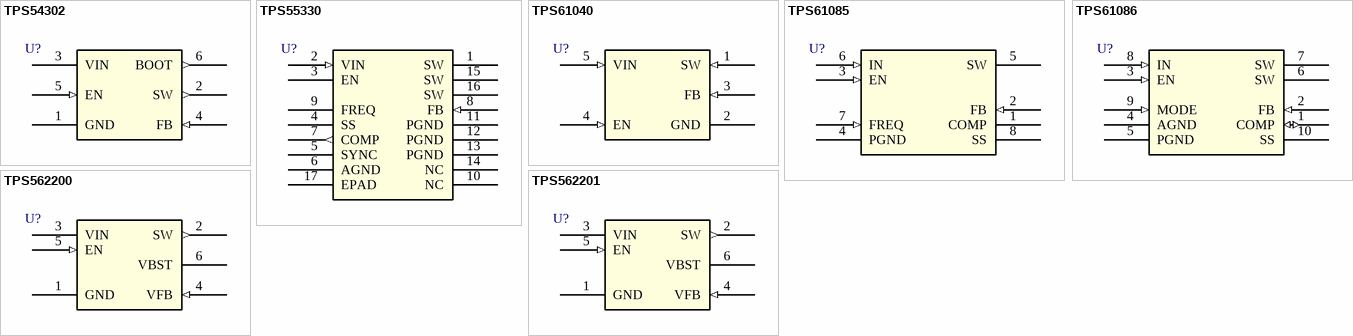
[diagram p3: symbols TPS54302 to TPS562201]

## TPS54302
designator U?
TPS54302 4.5-V to 28-V Input, 3-A Output, EMI Friendly / Synchronous Step-Down Converter; Manufacturer: Texas Instruments; Manufacturer_Part_Number: TPS54302DDCR; Built_By: Gordon Mak; Copyright: Copyright (C) 2020 MWLabs. All rights reserved; RefDes: RefDes; Type: DEV; Value: Value
footprint DDC6
pins: 1 GND (power), 2 SW (out), 3 VIN (power), 4 FB (in), 5 EN (in), 6 BOOT (out)

## TPS55330
designator U?
TPS55330 Integrated 5-A, 24-V Boost/SEPIC/Flyback DC-DC Regulator; Manufacturer: Texas Instruments; Manufacturer_Part_Number: TPS55330RTER; Built_By: EMA_UL_Team; Copyright: Copyright (C) 2018 Accelerated Designs. All rights reserved; RefDes: RefDes; Type: DEV; Value: Value
footprint RTE16
pins: 1 SW, 2 VIN (in), 3 EN, 4 SS, 5 SYNC, 6 AGND (power), 7 COMP (out), 8 FB (in), 9 FREQ, 10 NC, 11 PGND (power), 12 PGND (power), 13 PGND (power), 14 NC, 15 SW, 16 SW, 17 EPAD (power)

## TPS61040
designator U?
TPS6104x Low-Power DC-DC Boost Converter; Manufacturer: Texas Instruments; Manufacturer_Part_Number: TPS61040DBVR; Built_By: Gordon Mak; Copyright: Copyright (C) 2020 MWLabs. All rights reserved; RefDes: RefDes; Type: DEV; Value: Value
footprint DBV5
pins: 1 SW (in), 2 GND (power), 3 FB (in), 4 EN (in), 5 VIN (in)

## TPS61085
designator U?
TPS61085 650-kHz,1.2-MHz, 18.5-V Step-Up DC-DC Converter; Manufacturer: Texas Instruments; Manufacturer_Part_Number: TPS61085DGKR; Built_By: EMA_UL_Team; Copyright: Copyright (C) 2018 Accelerated Designs. All rights reserved; RefDes: RefDes; Type: DEV; Value: Value
footprint DGK8
pins: 1 COMP, 2 FB (in), 3 EN (in), 4 PGND (power), 5 SW, 6 IN (in), 7 FREQ (in), 8 SS

## TPS61086
designator U?
TPS61086 18.5-V PFM – PWM Step-Up DC – DC Converter With 2.0-A Switch; Manufacturer: Texas Instruments; Manufacturer_Part_Number: TPS61086DRCR; Built_By: EMA_UL_Team; Copyright: Copyright (C) 2018 Accelerated Designs. All rights reserved; RefDes: RefDes; Type: DEV; Value: Value
footprint DRC10
pins: 1 COMP (io), 2 FB (in), 3 EN (in), 4 AGND (power), 5 PGND, 6 SW, 7 SW, 8 IN (in), 9 MODE (in), 10 SS

## TPS562200
designator U?
TPS56x200 4.5-V To 17-V Input, 2-A, 3-A Synchronous Step-Down Voltage Regulator; Manufacturer: Texas Instruments; Manufacturer_Part_Number: TPS562200DDCR; Built_By: Gordon Mak; Copyright: Copyright (C) 2020 MWLabs. All rights reserved; RefDes: RefDes; Type: DEV; Value: Value
footprint DDC6
pins: 1 GND (power), 2 SW (out), 3 VIN (power), 4 VFB (in), 5 EN (in), 6 VBST

## TPS562201
designator U?
TPS56220x 4.5-V to 17-V Input, 2-A Synchronous Step-Down Voltage Regulator in 6-Pin SOT-23; Manufacturer: Texas Instruments; Manufacturer_Part_Number: TPS562201DDCR; Built_By: Gordon Mak; Copyright: Copyright (C) 2020 MWLabs. All rights reserved; RefDes: RefDes; Type: DEV; Value: Value
footprint DDC6
pins: 1 GND (power), 2 SW (out), 3 VIN (power), 4 VFB (in), 5 EN (in), 6 VBST